# Altium schematic symbol library NJG1157PCD.SchLib: 1 symbol
Pins are listed as number, name and electrical type; pins without a type are passive.

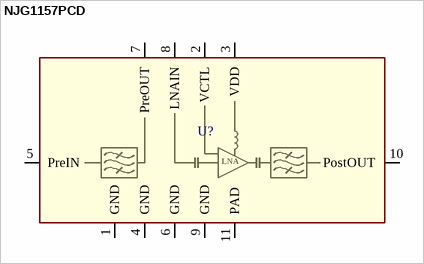
[diagram p0: symbol NJG1157PCD]

## NJG1157PCD
designator U?
GPS and GLONASS Front-End Module
footprint HFFP10-CD (PACKAGE HFFP10-CD)
pins: 1 GND, 2 VCTL, 3 VDD, 4 GND, 5 PreIN, 6 GND, 7 PreOUT, 8 LNAIN, 9 GND, 10 PostOUT, 11 PAD
text: LNA